# Altium footprint library CON-IDC.PcbLib: 62 footprints (part 2 of 4)
Each footprint in its own frame and in the unit in brackets; x right, y up, seen from the top. Pads: shape width x height; smd on the part's side, far side on the other; paste and mask are expansions set on the pad; w line width, h text height; cw(c..) or ccw(c..) is an arc to the next point about the centre after c.
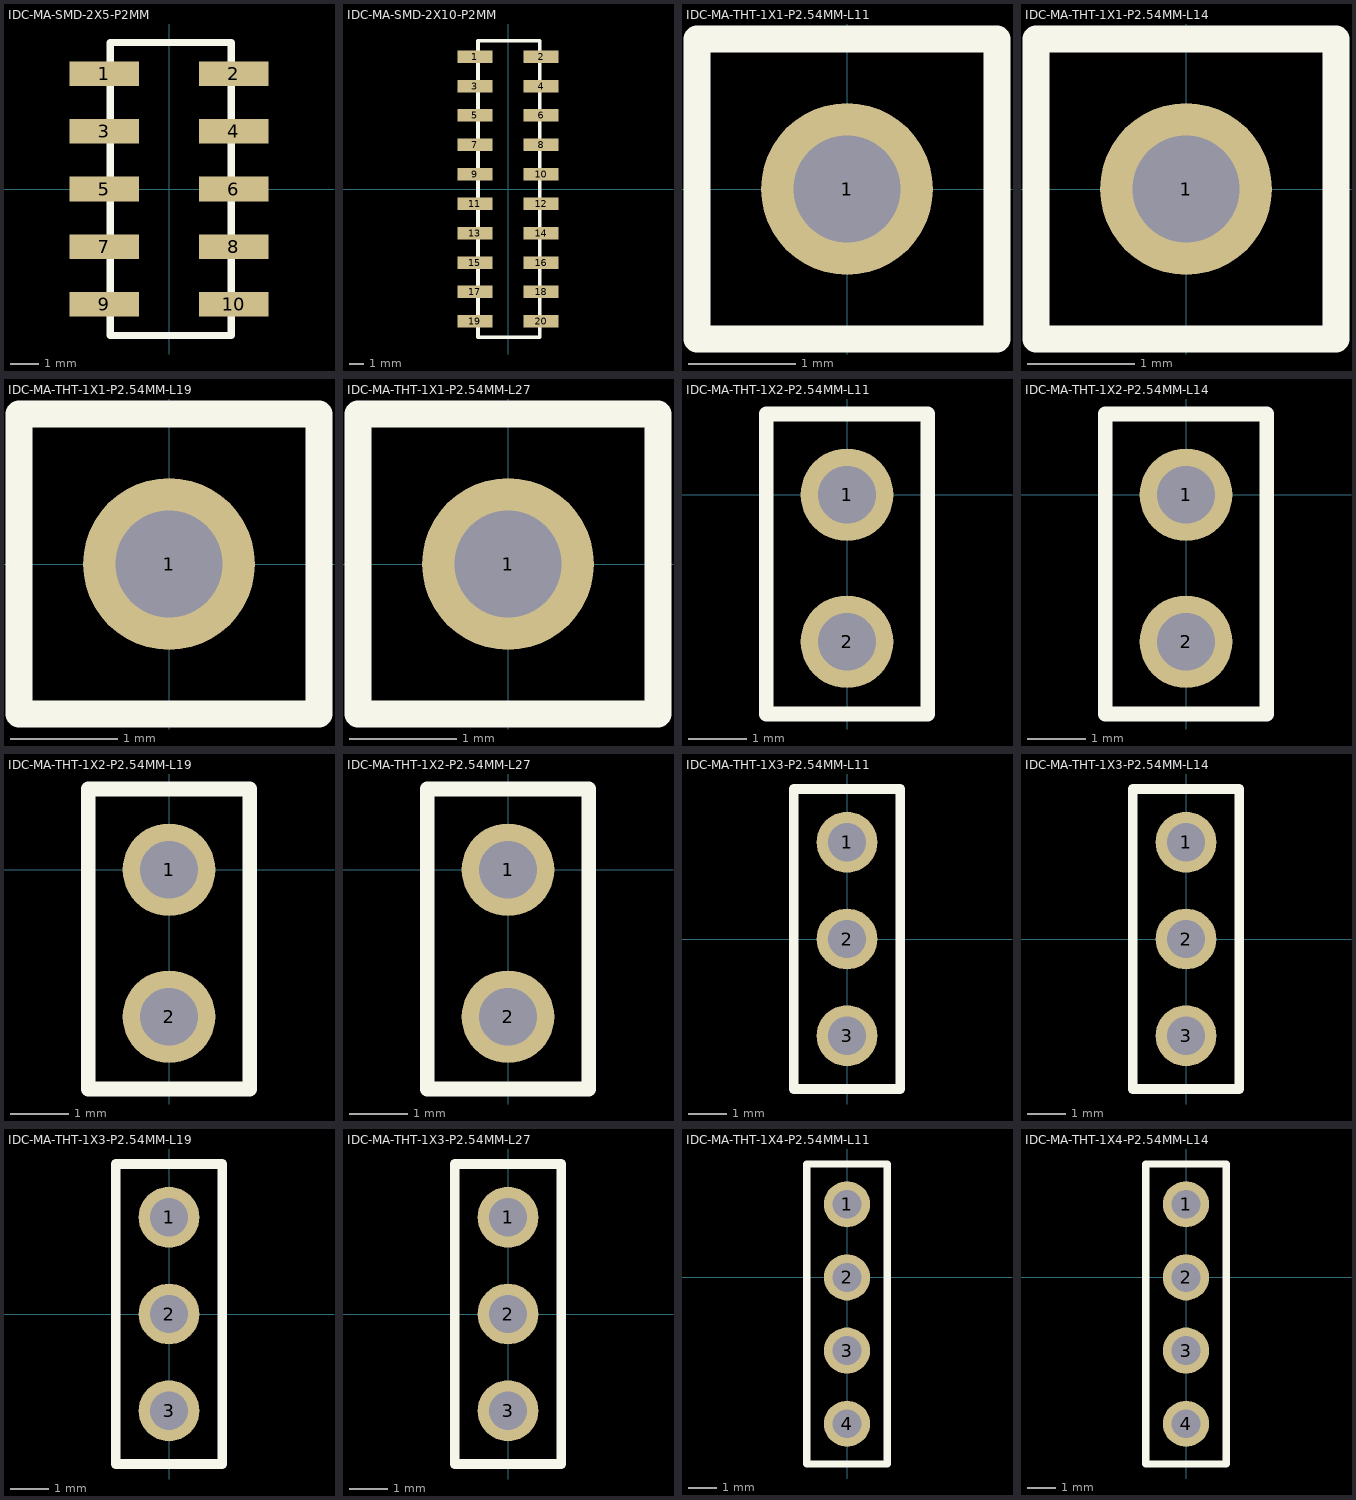
[diagram p1: the footprints below, top view; thin cyan lines are the x and y axes]

## IDC-MA-SMD-2X5-P2MM [mm] "IDC-MA-SMD-2X5-P2MM"
pads (10):
  rect 2.4x0.85 smd: 1(-2.245,4) 2(2.245,4) 3(-2.245,2) 4(2.245,2) 5(-2.245,0) 6(2.245,0) 7(-2.245,-2) 8(2.245,-2) 9(-2.245,-4) 10(2.245,-4)
Top Overlay:
  lines w0.254: -2.032,-5.08 2.159,-5.08 2.159,5.08 -2.032,5.08 -2.032,-5.08
3D body "CON-IDC-MA-SMD-2X5-P2MM.stp": height 6.7, standoff 0, extent -3.1,-5 3.1,5

## IDC-MA-SMD-2X10-P2MM [mm] "IDC-MA-SMD-2X10-P2MM"
pads (20):
  rect 2.4x0.85 smd: 1(-2.245,9) 2(2.245,9) 3(-2.245,7) 4(2.245,7) 5(-2.245,5) 6(2.245,5) 7(-2.245,3) 8(2.245,3) 9(-2.245,1) 10(2.245,1) 11(-2.245,-1) 12(2.245,-1) 13(-2.245,-3) 14(2.245,-3) 15(-2.245,-5) 16(2.245,-5) 17(-2.245,-7) 18(2.245,-7) 19(-2.245,-9) 20(2.245,-9)
Top Overlay:
  lines w0.254: -2.032,-0.08 -2.032,10.08 2.159,10.08 2.159,-0.08 ; -2.032,0.08 -2.032,-10.08 2.159,-10.08 2.159,0.08
3D body "CON-IDC-MA-SMD-2X5-P2MM.stp": height 6.7, standoff 0, extent -3.1,-0.047 3.1,9.953
3D body "CON-IDC-MA-SMD-2X5-P2MM.stp": height 6.7, standoff 0, extent -3.1,-10.033 3.1,-0.033

## IDC-MA-THT-1X1-P2.54MM-L11 [mm] "IDC-MA-THT-1X1-P2.54MM-L11"
pads (1):
  round 1.6 hole 1: 1(0,0)
Top Overlay:
  lines w0.254: -1.397,-1.397 -1.397,-0.555 -1.397,1.397 1.397,1.397 1.397,-0.682 1.397,-1.397 -1.397,-1.397
3D body "CON-PIN-CORTO.step": height 9.54, standoff -3, extent -1.25,-1.25 1.25,1.25

## IDC-MA-THT-1X1-P2.54MM-L14 [mm] "IDC-MA-THT-1X1-P2.54MM-L14"
pads (1):
  round 1.6 hole 1: 1(0,0)
Top Overlay:
  lines w0.254: -1.397,-1.397 -1.397,-0.555 -1.397,1.397 1.397,1.397 1.397,-0.682 1.397,-1.397 -1.397,-1.397
3D body "CON-PIN-L14.stp": height 11.46, standoff -2.54, extent -1.27,-1.27 1.27,1.27

## IDC-MA-THT-1X1-P2.54MM-L19 [mm] "IDC-MA-THT-1X1-P2.54MM-L19"
pads (1):
  round 1.6 hole 1: 1(0,0)
Top Overlay:
  lines w0.254: -1.397,-1.397 -1.397,-0.555 -1.397,1.397 1.397,1.397 1.397,-0.682 1.397,-1.397 -1.397,-1.397
3D body "CON-PIN-L19.stp": height 16.96, standoff -2.54, extent -1.27,-1.27 1.27,1.27

## IDC-MA-THT-1X1-P2.54MM-L27 [mm] "IDC-MA-THT-1X1-P2.54MM-L27"
pads (1):
  round 1.6 hole 1: 1(0,0)
Top Overlay:
  lines w0.254: -1.397,-1.397 -1.397,-0.555 -1.397,1.397 1.397,1.397 1.397,-0.682 1.397,-1.397 -1.397,-1.397
3D body "CON-PIN-L27.stp": height 24.46, standoff -2.54, extent -1.27,-1.27 1.27,1.27

## IDC-MA-THT-1X2-P2.54MM-L11 [mm] "IDC-MA-THT-1X2-P2.54MM-L11"
pads (2):
  round 1.6 hole 1: 1(0,0) 2(0,-2.54)
Top Overlay:
  lines w0.254: -1.397,-3.79 1.397,-3.79 1.397,1.397 -1.397,1.397 -1.397,-3.79
3D body "CON-PIN-CORTO.step": height 9.54, standoff -3, extent -1.25,-3.79 1.25,-1.29
3D body "CON-PIN-CORTO.step": height 9.54, standoff -3, extent -1.25,-1.25 1.25,1.25

## IDC-MA-THT-1X2-P2.54MM-L14 [mm] "IDC-MA-THT-1X2-P2.54MM-L14"
pads (2):
  round 1.6 hole 1: 1(0,0) 2(0,-2.54)
Top Overlay:
  lines w0.254: -1.397,-3.79 1.397,-3.79 1.397,1.397 -1.397,1.397 -1.397,-3.79
3D body "CON-PIN-L14.stp": height 11.46, standoff -2.54, extent -1.27,-3.81 1.27,-1.27
3D body "CON-PIN-L14.stp": height 11.46, standoff -2.54, extent -1.27,-1.27 1.27,1.27

## IDC-MA-THT-1X2-P2.54MM-L19 [mm] "IDC-MA-THT-1X2-P2.54MM-L19"
pads (2):
  round 1.6 hole 1: 1(0,0) 2(0,-2.54)
Top Overlay:
  lines w0.254: -1.397,-3.79 -1.397,1.397 1.397,1.397 1.397,-3.79 -1.397,-3.79
3D body "CON-PIN-L19.stp": height 16.96, standoff -2.54, extent -1.27,-3.81 1.27,-1.27
3D body "CON-PIN-L19.stp": height 16.96, standoff -2.54, extent -1.27,-1.27 1.27,1.27

## IDC-MA-THT-1X2-P2.54MM-L27 [mm] "IDC-MA-THT-1X2-P2.54MM-L27"
pads (2):
  round 1.6 hole 1: 1(0,0) 2(0,-2.54)
Top Overlay:
  lines w0.254: -1.397,-3.79 1.397,-3.79 1.397,1.397 -1.397,1.397 -1.397,-3.79
3D body "CON-PIN-L27.stp": height 24.46, standoff -2.54, extent -1.27,-3.81 1.27,-1.27
3D body "CON-PIN-L27.stp": height 24.46, standoff -2.54, extent -1.27,-1.27 1.27,1.27

## IDC-MA-THT-1X3-P2.54MM-L11 [mm] "IDC-MA-THT-1X3-P2.54MM-L11"
pads (3):
  round 1.6 hole 1: 1(0,2.54) 2(0,0) 3(0,-2.54)
Top Overlay:
  lines w0.254: -1.397,-3.937 1.397,-3.937 1.397,3.937 -1.397,3.937 -1.397,-3.937
3D body "CON-PIN-CORTO.step": height 9.54, standoff -3, extent -1.25,-3.79 1.25,-1.29
3D body "CON-PIN-CORTO.step": height 9.54, standoff -3, extent -1.25,-1.25 1.25,1.25
3D body "CON-PIN-CORTO.step": height 9.54, standoff -3, extent -1.25,1.29 1.25,3.79

## IDC-MA-THT-1X3-P2.54MM-L14 [mm] "IDC-MA-THT-1X3-P2.54MM-L14"
pads (3):
  round 1.6 hole 1: 1(0,2.54) 2(0,0) 3(0,-2.54)
Top Overlay:
  lines w0.254: -1.397,-3.937 1.397,-3.937 1.397,3.937 -1.397,3.937 -1.397,-3.937
3D body "CON-PIN-L14.stp": height 11.46, standoff -2.54, extent -1.27,1.27 1.27,3.81
3D body "CON-PIN-L14.stp": height 11.46, standoff -2.54, extent -1.27,-1.27 1.27,1.27
3D body "CON-PIN-L14.stp": height 11.46, standoff -2.54, extent -1.27,-3.81 1.27,-1.27

## IDC-MA-THT-1X3-P2.54MM-L19 [mm] "IDC-MA-THT-1X3-P2.54MM-L19"
pads (3):
  round 1.6 hole 1: 1(0,2.54) 2(0,0) 3(0,-2.54)
Top Overlay:
  lines w0.254: -1.397,-3.937 1.397,-3.937 1.397,3.937 -1.397,3.937 -1.397,-3.937
3D body "CON-PIN-L19.stp": height 16.96, standoff -2.54, extent -1.27,1.27 1.27,3.81
3D body "CON-PIN-L19.stp": height 16.96, standoff -2.54, extent -1.27,-1.27 1.27,1.27
3D body "CON-PIN-L19.stp": height 16.96, standoff -2.54, extent -1.27,-3.81 1.27,-1.27

## IDC-MA-THT-1X3-P2.54MM-L27 [mm] "IDC-MA-THT-1X3-P2.54MM-L27"
pads (3):
  round 1.6 hole 1: 1(0,2.54) 2(0,0) 3(0,-2.54)
Top Overlay:
  lines w0.254: -1.397,-3.937 -1.397,3.937 1.397,3.937 1.397,-3.937 -1.397,-3.937
3D body "CON-PIN-L27.stp": height 24.46, standoff -2.54, extent -1.27,-3.81 1.27,-1.27
3D body "CON-PIN-L27.stp": height 24.46, standoff -2.54, extent -1.27,-1.27 1.27,1.27
3D body "CON-PIN-L27.stp": height 24.46, standoff -2.54, extent -1.27,1.27 1.27,3.81

## IDC-MA-THT-1X4-P2.54MM-L11 [mm] "IDC-MA-THT-1X4-P2.54MM-L11"
pads (4):
  round 1.6 hole 1: 1(0,2.54) 2(0,0) 3(0,-2.54) 4(0,-5.08)
Top Overlay:
  lines w0.254: -1.397,-6.477 1.397,-6.477 1.397,3.937 -1.397,3.937 -1.397,-6.477
3D body "CON-PIN-CORTO.step": height 9.54, standoff -3, extent -1.25,-6.33 1.25,-3.83
3D body "CON-PIN-CORTO.step": height 9.54, standoff -3, extent -1.25,-3.79 1.25,-1.29
3D body "CON-PIN-CORTO.step": height 9.54, standoff -3, extent -1.25,-1.25 1.25,1.25
3D body "CON-PIN-CORTO.step": height 9.54, standoff -3, extent -1.25,1.29 1.25,3.79

## IDC-MA-THT-1X4-P2.54MM-L14 [mm] "IDC-MA-THT-1X4-P2.54MM-L14"
pads (4):
  round 1.6 hole 1: 1(0,2.54) 2(0,0) 3(0,-2.54) 4(0,-5.08)
Top Overlay:
  lines w0.254: -1.397,-6.477 1.397,-6.477 1.397,3.937 -1.397,3.937 -1.397,-6.477
3D body "CON-PIN-L14.stp": height 11.46, standoff -2.54, extent -1.27,-6.35 1.27,-3.81
3D body "CON-PIN-L14.stp": height 11.46, standoff -2.54, extent -1.27,-3.81 1.27,-1.27
3D body "CON-PIN-L14.stp": height 11.46, standoff -2.54, extent -1.27,-1.27 1.27,1.27
3D body "CON-PIN-L14.stp": height 11.46, standoff -2.54, extent -1.27,1.27 1.27,3.81